# EAGLE library part TPS55288RPMR (library TPS55288RPMR)
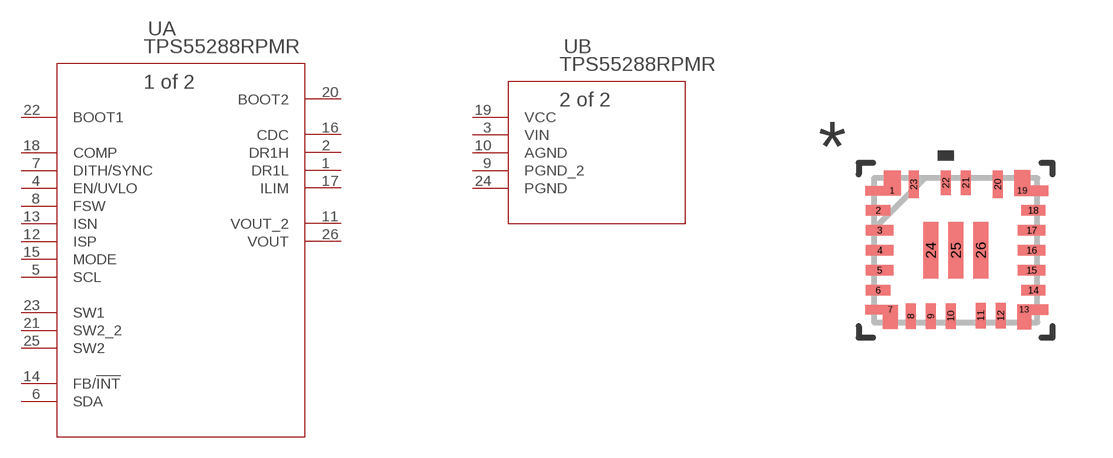
[diagram p2: symbol with the pads of VQFN-HR26_RPM_TEX; footprint VQFN-HR26_RPM_TEX]

Designator prefix U; gates A=TPS55288RPMR B=TPS55288RPMR_A

## TPS55288RPMR (BUILT_BY: EMA_Rebekah; COPYRIGHT: Copyright (C) 2018 Accelerated Designs. All rights reserved; MANUFACTURER_PART_NUMBER: TPS55288RPMR; SOURCELIBRARY: TI_2020-04-29; VENDOR: Texas Instruments)  [VQFN-HR26_RPM_TEX]
1  A:DR1L  out
2  A:DR1H  out
3  B:VIN  pwr
4  A:EN/UVLO  in
5  A:SCL  in
6  A:SDA
7  A:DITH/SYNC  in
8  A:FSW  in
9  B:PGND_2  pwr
10  B:AGND  pwr
11  A:VOUT_2  pwr
12  A:ISP  in
13  A:ISN  in
14  A:FB/!INT
15  A:MODE  in
16  A:CDC  out
17  A:ILIM  out
18  A:COMP  in
19  B:VCC  out
20  A:BOOT2  out
21  A:SW2_2  in
22  A:BOOT1  in
23  A:SW1  in
24  B:PGND  pwr
25  A:SW2  in
26  A:VOUT  pwr

## Footprint VQFN-HR26_RPM_TEX (pad centres in mm)
smd 0.406 x 0.229: 1 -1.625,1.488; 19 1.625,1.488
smd 0.61 x 0.254: 2 -1.976,1; 6 -1.976,-1; 14 1.9,-1; 18 1.9,1
smd 0.686 x 0.254: 3 -1.938,0.5; 4 -1.938,0; 5 -1.938,-0.5; 15 1.862,-0.5; 16 1.862,0; 17 1.862,0.5
smd 0.356 x 0.229: 7 -1.675,-1.488; 13 1.675,-1.488
smd 0.254 x 0.635: 8 -1.163,-1.65; 9 -0.663,-1.65; 10 -0.163,-1.65; 11 0.587,-1.637; 12 1.087,-1.637
smd 0.254 x 0.686: 20 1.012,1.65; 23 -1.088,1.65
smd 0.254 x 0.61: 21 0.212,1.688; 22 -0.288,1.688
smd 0.381 x 1.422: 24 -0.663,0; 25 -0.038,0; 26 0.587,0